# Altium footprint library Connector.PcbLib: 52 footprints (part 3 of 4)
Each footprint in its own frame and in the unit in brackets; x right, y up, seen from the top. Pads: shape width x height; smd on the part's side, far side on the other; paste and mask are expansions set on the pad; w line width, h text height; cw(c..) or ccw(c..) is an arc to the next point about the centre after c.
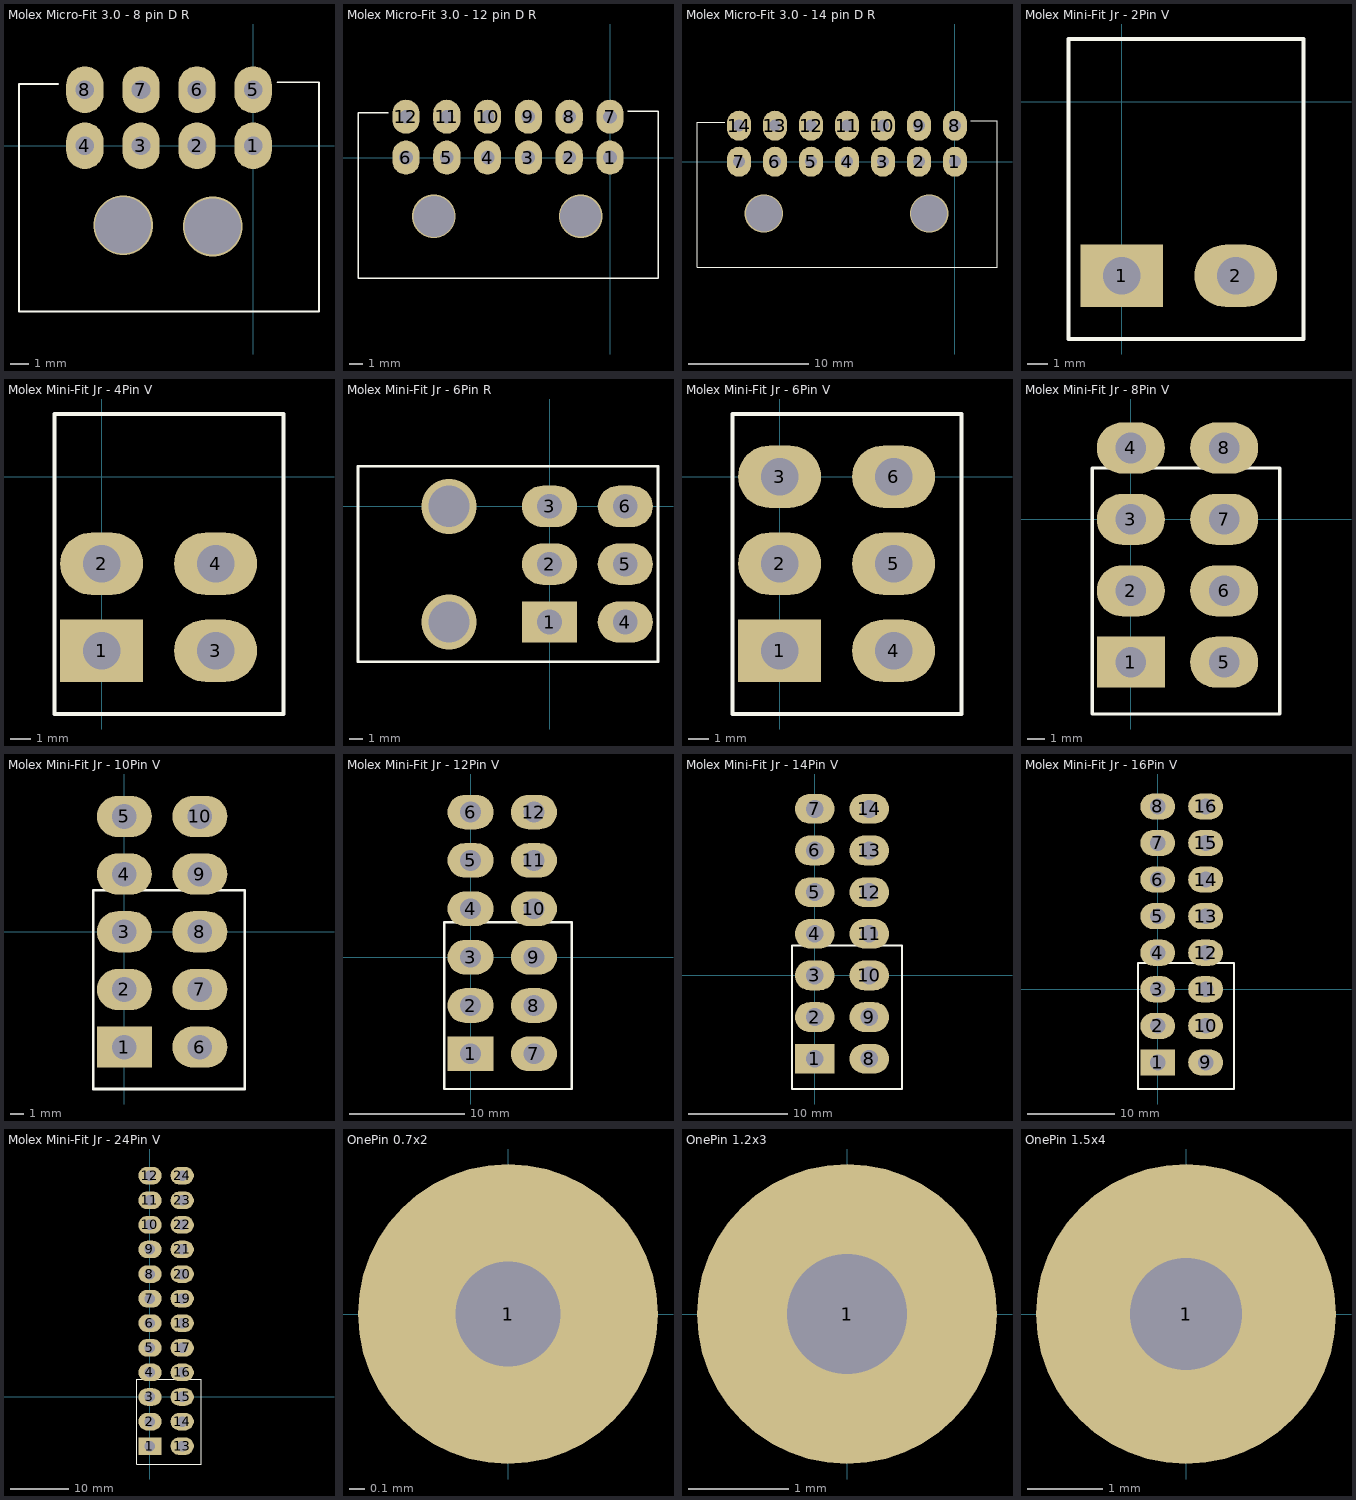
[diagram p2: the footprints below, top view; thin cyan lines are the x and y axes]

## Molex Micro-Fit 3.0 - 8 pin D R [mm]
pads (8):
  oval 2x2.5 hole 1: 1(0,0) 2(-3,0) 3(-6,0) 4(-9,0) 5(0,3) 6(-3,3) 7(-6,3) 8(-9,3)
via -6.95,-4.25 diameter 3.2 hole 3
via -2.16,-4.32 diameter 3.2 hole 3
Top Overlay:
  lines w0.1: -10.425,3.3 -12.525,3.3 -12.525,-8.875 3.525,-8.875 3.525,3.4 1.3,3.4
3D body: height 8.73, standoff -3.21, extent -12.575,-8.875 3.575,3.365

## Molex Micro-Fit 3.0 - 12 pin D R [mm]
pads (12):
  oval 2x2.5 hole 1: 1(0,0) 2(-3,0) 3(-6,0) 4(-9,0) 5(-12,0) 6(-15,0) 7(0,3) 8(-3,3) 9(-6,3) 10(-9,3) 11(-12,3) 12(-15,3)
via -2.16,-4.32 diameter 3.2 hole 3
via -12.95,-4.325 diameter 3.2 hole 3
Top Overlay:
  lines w0.1: -16.3,3.3 -18.525,3.3 -18.525,-8.875 3.525,-8.875 3.525,3.4 1.3,3.4
Mechanical 1:
  lines w0.1: -12.95,-4.325 -12.9,-4.325
3D body: height 8.83, standoff -3.12, extent -18.575,-8.94 3.575,3.3

## Molex Micro-Fit 3.0 - 14 pin D R [mm]
pads (14):
  oval 2x2.5 hole 1: 1(0,0) 2(-3,0) 3(-6,0) 4(-9,0) 5(-12,0) 6(-15,0) 7(-18,0) 8(0,3) 9(-3,3) 10(-6,3) 11(-9,3) 12(-12,3) 13(-15,3) 14(-18,3)
via -15.93,-4.32 diameter 3.2 hole 3
via -2.16,-4.32 diameter 3.2 hole 3
Top Overlay:
  lines w0.1: -19.2,3.3 -21.5,3.3 -21.5,-8.8 3.5,-8.8 3.5,3.4 1.3,3.4
3D body: height 8.83, standoff -3.12, extent -21.575,-8.85 3.575,3.39

## Molex Mini-Fit Jr - 2Pin V [mm] "Molex Mega-Fit"
pads (2):
  rect 4x3 hole 1.8: 1(0,-8.4)
  oval 4x3 hole 1.8: 2(5.5,-8.4)
Top Overlay:
  lines w0.2: -2.575,-11.45 8.775,-11.45 8.775,3.025 -2.575,3.025 -2.575,-11.45

## Molex Mini-Fit Jr - 4Pin V [mm] "Molex Mega-Fit"
pads (4):
  rect 4x3 hole 1.8: 1(0,-8.4)
  oval 4x3 hole 1.8: 2(0,-4.2) 3(5.5,-8.4) 4(5.5,-4.2)
Top Overlay:
  lines w0.2: -2.275,-11.45 8.775,-11.45 8.775,3.025 -2.275,3.025 -2.275,-11.45

## Molex Mini-Fit Jr - 6Pin R [mm] "Molex Mega-Fit"
pads (6):
  rect 4x3 hole 1.8: 1(0,-8.4)
  oval 4x3 hole 1.8: 2(0,-4.2) 3(0,0) 4(5.5,-8.4) 5(5.5,-4.2) 6(5.5,0)
via -7.3,0 diameter 4 hole 3
via -7.3,-8.4 diameter 4 hole 3
Top Overlay:
  lines w0.2: -13.9,-11.275 -13.9,2.9 7.875,2.9 7.875,-11.275 -13.9,-11.275
3D body: height 11.4, standoff -3.6, extent -13.892,-11.5 6.042,2.7

## Molex Mini-Fit Jr - 6Pin V [mm] "Molex Mega-Fit"
pads (6):
  rect 4x3 hole 1.8: 1(0,-8.4)
  oval 4x3 hole 1.8: 2(0,-4.2) 3(0,0) 4(5.5,-8.4) 5(5.5,-4.2) 6(5.5,0)
Top Overlay:
  lines w0.2: -2.275,-11.45 -2.275,3.025 8.775,3.025 8.775,-11.45 -2.275,-11.45
3D body: height 12.8, standoff -3.5, extent -2.2,-11.5 8.8,3.1

## Molex Mini-Fit Jr - 8Pin V [mm] "Molex Mega-Fit"
pads (8):
  rect 4x3 hole 1.8: 1(0,-8.4)
  oval 4x3 hole 1.8: 2(0,-4.2) 3(0,0) 4(0,4.2) 5(5.5,-8.4) 6(5.5,-4.2) 7(5.5,0) 8(5.5,4.2)
Top Overlay:
  lines w0.2: -2.275,-11.45 8.775,-11.45 8.775,3.025 -2.275,3.025 -2.275,-11.45

## Molex Mini-Fit Jr - 10Pin V [mm] "Molex Mega-Fit"
pads (10):
  rect 4x3 hole 1.8: 1(0,-8.4)
  oval 4x3 hole 1.8: 2(0,-4.2) 3(0,0) 4(0,4.2) 5(0,8.4) 6(5.5,-8.4) 7(5.5,-4.2) 8(5.5,0) 9(5.5,4.2) 10(5.5,8.4)
Top Overlay:
  lines w0.2: -2.275,-11.45 8.775,-11.45 8.775,3.025 -2.275,3.025 -2.275,-11.45

## Molex Mini-Fit Jr - 12Pin V [mm] "Molex Mega-Fit"
pads (12):
  rect 4x3 hole 1.8: 1(0,-8.4)
  oval 4x3 hole 1.8: 2(0,-4.2) 3(0,0) 4(0,4.2) 5(0,8.4) 6(0,12.6) 7(5.5,-8.4) 8(5.5,-4.2) 9(5.5,0) 10(5.5,4.2) 11(5.5,8.4) 12(5.5,12.6)
Top Overlay:
  lines w0.2: -2.275,-11.45 -2.275,3.025 8.775,3.025 8.775,-11.45 -2.275,-11.45

## Molex Mini-Fit Jr - 14Pin V [mm] "Molex Mega-Fit"
pads (14):
  rect 4x3 hole 1.8: 1(0,-8.4)
  oval 4x3 hole 1.8: 2(0,-4.2) 3(0,0) 4(0,4.2) 5(0,8.4) 6(0,12.6) 7(0,16.8) 8(5.5,-8.4) 9(5.5,-4.2) 10(5.5,0) 11(5.5,4.2) 12(5.5,8.4) 13(5.5,12.6) 14(5.5,16.8)
Top Overlay:
  lines w0.2: -2.275,-11.45 -2.275,3.025 8.775,3.025 8.775,-11.45 -2.275,-11.45

## Molex Mini-Fit Jr - 16Pin V [mm] "Molex Mega-Fit"
pads (16):
  rect 4x3 hole 1.8: 1(0,-8.4)
  oval 4x3 hole 1.8: 2(0,-4.2) 3(0,0) 4(0,4.2) 5(0,8.4) 6(0,12.6) 7(0,16.8) 8(0,21) 9(5.5,-8.4) 10(5.5,-4.2) 11(5.5,0) 12(5.5,4.2) 13(5.5,8.4) 14(5.5,12.6) 15(5.5,16.8) 16(5.5,21)
Top Overlay:
  lines w0.2: -2.275,-11.45 -2.275,3.025 8.775,3.025 8.775,-11.45 -2.275,-11.45

## Molex Mini-Fit Jr - 24Pin V [mm] "Molex Mega-Fit"
pads (24):
  rect 4x3 hole 1.8: 1(0,-8.4)
  oval 4x3 hole 1.8: 2(0,-4.2) 3(0,0) 4(0,4.2) 5(0,8.4) 6(0,12.6) 7(0,16.8) 8(0,21) 9(0,25.2) 10(0,29.4) 11(0,33.6) 12(0,37.8) 13(5.5,-8.4) 14(5.5,-4.2) 15(5.5,0) 16(5.5,4.2) 17(5.5,8.4) 18(5.5,12.6) 19(5.5,16.8) 20(5.5,21) 21(5.5,25.2) 22(5.5,29.4) 23(5.5,33.6) 24(5.5,37.8)
Top Overlay:
  lines w0.2: -2.275,-11.45 -2.275,3.025 8.775,3.025 8.775,-11.45 -2.275,-11.45

## OnePin 0.7x2 [mm]
pads (1):
  round 2 hole 0.7: 1(0,0)

## OnePin 1.2x3 [mm]
pads (1):
  round 3 hole 1.2: 1(0,0)

## OnePin 1.5x4 [mm]
pads (1):
  round 4 hole 1.5: 1(0,0)